# Altium footprint library SMD6.PcbLib: 1 footprints
Each footprint in its own frame and in the unit in brackets; x right, y up, seen from the top. Pads: shape width x height; smd on the part's side, far side on the other; paste and mask are expansions set on the pad; w line width, h text height; cw(c..) or ccw(c..) is an arc to the next point about the centre after c.
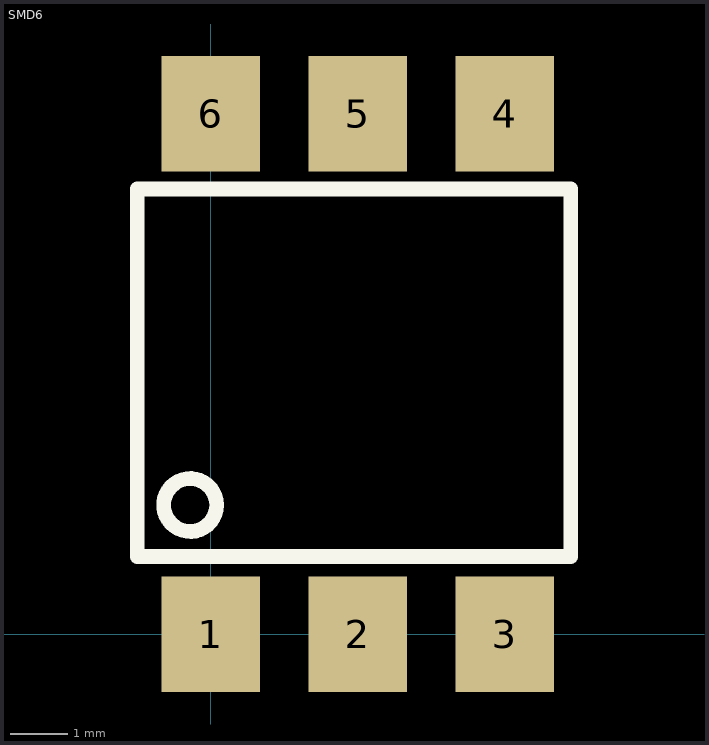
[diagram p0: the footprint, top view; thin cyan lines are the x and y axes]

## SMD6 [mm]
height 3.9
pads (6):
  rect 1.7x2 smd: 1(0,0) 2(2.54,0) 3(5.08,0) 4(5.08,9) 5(2.54,9) 6(0,9)
Top Overlay:
  circle w0.254: c-0.356,2.235 r0.458
  lines w0.254: -1.27,1.346 -1.27,7.696 6.223,7.696 6.223,1.346 -1.27,1.346
3D body: height 3.9, standoff 0, extent -1.397,0.889 6.35,8.001